# Altium footprint library PCB - MECHANICAL - WURTH 74650173.PCBLIB: 1 footprints
Each footprint in its own frame and in the unit in brackets; x right, y up, seen from the top. Pads: shape width x height; smd on the part's side, far side on the other; paste and mask are expansions set on the pad; w line width, h text height; cw(c..) or ccw(c..) is an arc to the next point about the centre after c.
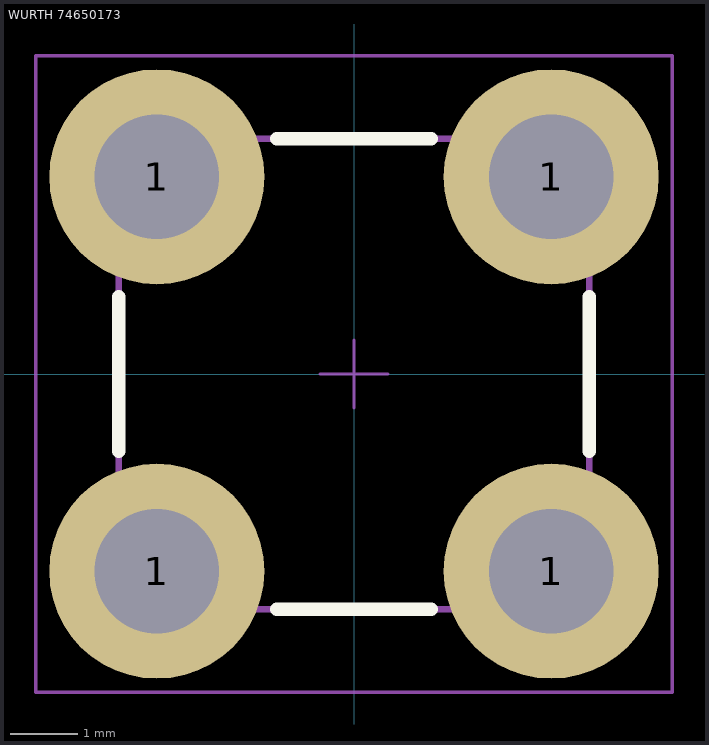
[diagram p0: the footprint, top view; thin cyan lines are the x and y axes]

## WURTH 74650173 [mm] "REDCUBE THR with internal thread, M3x4mm, blind"
height 6
pads (4):
  round 3.2 hole 1.85: 1(-2.935,-2.935) 1(-2.935,2.935) 1(2.935,-2.935) 1(2.935,2.935)
Top Overlay:
  lines w0.2: -3.5,-1.15 -3.5,1.15 ; -1.15,-3.5 1.15,-3.5 ; -1.15,3.5 1.15,3.5 ; 3.5,-1.15 3.5,1.15
Top Paste:
  region: -2.935,-4.485 -3.088,-4.485 -3.387,-4.425 -3.669,-4.309 -3.923,-4.139 -4.139,-3.923 -4.309,-3.669 -4.425,-3.387 -4.485,-3.088 -4.485,-2.935 -4.485,-2.782 -4.425,-2.483 -4.309,-2.201 -4.139,-1.947 -3.923,-1.731 -3.669,-1.561 -3.387,-1.445 -3.088,-1.385 -2.935,-1.385 -2.782,-1.385 -2.483,-1.445 -2.201,-1.561 -1.947,-1.731 -1.731,-1.947 -1.561,-2.201 -1.445,-2.483 -1.385,-2.782 -1.385,-2.935 -1.385,-3.088 -1.445,-3.387 -1.561,-3.669 -1.731,-3.923 -1.947,-4.139 -2.201,-4.309 -2.483,-4.425 -2.782,-4.485
  region: 2.935,-4.485 2.782,-4.485 2.483,-4.425 2.201,-4.309 1.947,-4.139 1.731,-3.923 1.561,-3.669 1.445,-3.387 1.385,-3.088 1.385,-2.935 1.385,-2.782 1.445,-2.483 1.561,-2.201 1.731,-1.947 1.947,-1.731 2.201,-1.561 2.483,-1.445 2.782,-1.385 2.935,-1.385 3.088,-1.385 3.387,-1.445 3.669,-1.561 3.923,-1.731 4.139,-1.947 4.309,-2.201 4.425,-2.483 4.485,-2.782 4.485,-2.935 4.485,-3.088 4.425,-3.387 4.309,-3.669 4.139,-3.923 3.923,-4.139 3.669,-4.309 3.387,-4.425 3.088,-4.485
  region: 2.935,1.385 2.782,1.385 2.483,1.445 2.201,1.561 1.947,1.731 1.731,1.947 1.561,2.201 1.445,2.483 1.385,2.782 1.385,2.935 1.385,3.088 1.445,3.387 1.561,3.669 1.731,3.923 1.947,4.139 2.201,4.309 2.483,4.425 2.782,4.485 2.935,4.485 3.088,4.485 3.387,4.425 3.669,4.309 3.923,4.139 4.139,3.923 4.309,3.669 4.425,3.387 4.485,3.088 4.485,2.935 4.485,2.782 4.425,2.483 4.309,2.201 4.139,1.947 3.923,1.731 3.669,1.561 3.387,1.445 3.088,1.385
  region: -2.935,1.385 -3.088,1.385 -3.387,1.445 -3.669,1.561 -3.923,1.731 -4.139,1.947 -4.309,2.201 -4.425,2.483 -4.485,2.782 -4.485,2.935 -4.485,3.088 -4.425,3.387 -4.309,3.669 -4.139,3.923 -3.923,4.139 -3.669,4.309 -3.387,4.425 -3.088,4.485 -2.935,4.485 -2.782,4.485 -2.483,4.425 -2.201,4.309 -1.947,4.139 -1.731,3.923 -1.561,3.669 -1.445,3.387 -1.385,3.088 -1.385,2.935 -1.385,2.782 -1.445,2.483 -1.561,2.201 -1.731,1.947 -1.947,1.731 -2.201,1.561 -2.483,1.445 -2.782,1.385
Top Assembly:
  lines w0.05: -0.5,0 0.5,0 ; 0,-0.5 0,0.5
  lines w0.1: -3.5,-3.5 3.5,-3.5 3.5,3.5 -3.5,3.5 -3.5,-3.5
Top Courtyard:
  lines w0.05: -4.735,-4.735 -4.735,4.735 4.735,4.735 4.735,-4.735 -4.735,-4.735
3D body "Wurth 74650173.step": height 6, standoff -2.5, extent -3.499,-3.5 3.501,3.5